# EAGLE library part IC_SI5351A (library akita)
SiLabs Si5351A-B, PLL synthesizer
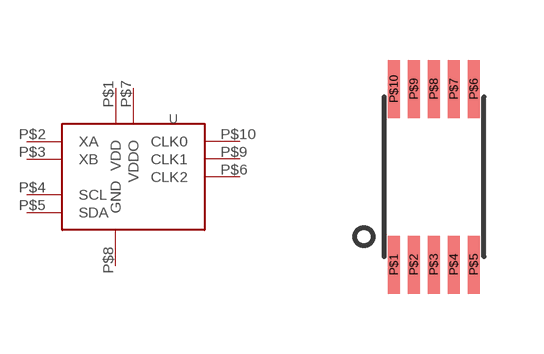
[diagram p172: symbol with the pads of MSOP10; footprint MSOP10]

Designator prefix U

## IC_SI5351A  [MSOP10]
P$1  VDD
P$2  XA
P$3  XB
P$4  SCL
P$5  SDA
P$6  CLK2
P$7  VDDO
P$8  GND
P$9  CLK1
P$10  CLK0

## Footprint MSOP10 (pad centres in mm)
MSOP10, 0.5mm pitch, W=5.0mm
smd 0.3 x 1.45: P$1 -1.25,-2.2; P$2 -0.75,-2.2; P$3 -0.25,-2.2; P$4 0.25,-2.2; P$5 0.75,-2.2; P$6 0.75,2.2; P$7 0.25,2.2; P$8 -0.25,2.2; P$9 -0.75,2.2; P$10 -1.25,2.2